# Altium footprint library PCB - CONNECTOR - SAMTEC - SAMTEC TSW-105-08-G-T-RA.PcbLib: 1 footprints
Each footprint in its own frame and in the unit in brackets; x right, y up, seen from the top. Pads: shape width x height; smd on the part's side, far side on the other; paste and mask are expansions set on the pad; w line width, h text height; cw(c..) or ccw(c..) is an arc to the next point about the centre after c.
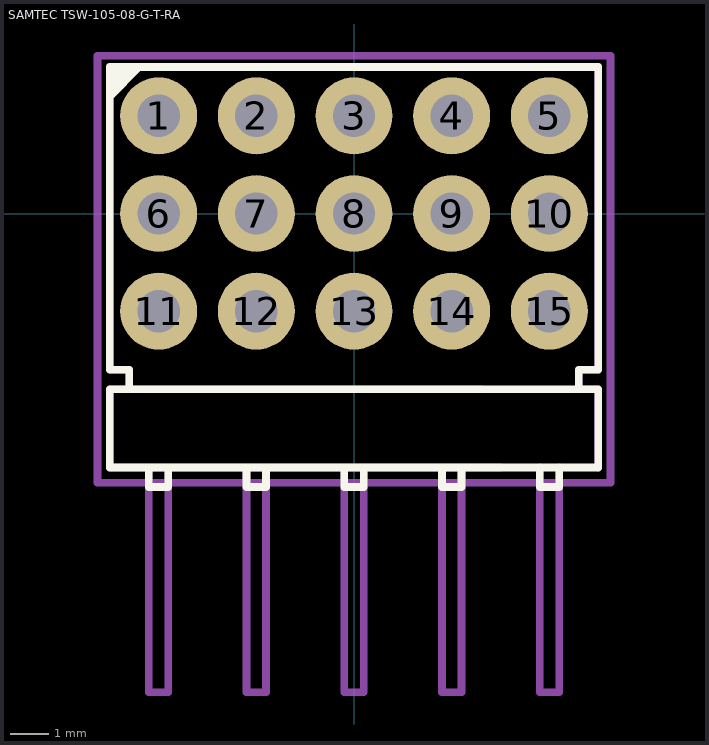
[diagram p0: the footprint, top view; thin cyan lines are the x and y axes]

## SAMTEC TSW-105-08-G-T-RA [mm] "2.54mm TIL PC TAIL PIN HEADER ASSEMBLY"
height 8.13
pads (15):
  round 2 hole 1.1: 1(-5.08,2.54) 2(-2.54,2.54) 3(0,2.54) 4(2.54,2.54) 5(5.08,2.54) 6(-5.08,0) 7(-2.54,0) 8(0,0) 9(2.54,0) 10(5.08,0) 11(-5.08,-2.54) 12(-2.54,-2.54) 13(0,-2.54) 14(2.54,-2.54) 15(5.08,-2.54)
Top Overlay:
  region: -6.35,3.81 -6.35,2.91 -5.45,3.81
  lines w0.2: -5.334,-6.604 -5.334,-7.112 -4.826,-7.112 -4.826,-6.604 ; -2.794,-6.604 -2.794,-7.112 -2.286,-7.112 -2.286,-6.604 ; -0.254,-6.604 -0.254,-7.112 0.254,-7.112 0.254,-6.604 ; 2.286,-6.604 2.286,-7.112 2.794,-7.112 2.794,-6.604 ; 4.826,-6.604 4.826,-7.112 5.334,-7.112 5.334,-6.604 ; -5.842,-4.572 5.842,-4.572 ; -5.842,-4.572 -6.35,-4.572 -6.35,-6.604 6.35,-6.604 6.35,-4.572 5.842,-4.572 ; -5.842,-4.572 -5.842,-4.064 -6.35,-4.064 -6.35,3.81 6.35,3.81 6.35,-4.064 5.842,-4.064 5.842,-4.572
Top Assembly:
  lines w0.2: -5.334,-6.604 -5.334,-12.446 -4.826,-12.446 -4.826,-6.604 ; -2.794,-6.604 -2.794,-12.446 -2.286,-12.446 -2.286,-6.604 ; -0.5,0 0.5,0 ; -0.254,-6.604 -0.254,-12.446 0.254,-12.446 0.254,-6.604 ; 0,-0.5 0,0.5 ; 2.286,-6.604 2.286,-12.446 2.794,-12.446 2.794,-6.604 ; 3.302,-4.572 -5.842,-4.572 ; 3.81,-6.604 -6.35,-6.604 -6.35,-4.572 -5.842,-4.572 ; 3.81,3.81 -6.35,3.81 -6.35,-4.064 -5.842,-4.064 -5.842,-4.572 ; 4.826,-6.604 4.826,-12.446 5.334,-12.446 5.334,-6.604 ; 6.35,-6.604 6.35,-4.572 5.842,-4.572 5.842,-4.064 6.35,-4.064 6.35,3.81
Top Courtyard (Mech15):
  lines w0.2: -6.67,-7 6.67,-7 6.67,4.1 -6.67,4.1 -6.67,-7
3D body "Samtec - TSW-105-08-G-T-RA.step": height 8.13, standoff -2.29, extent -6.35,-12.446 6.35,2.857